# Altium schematic symbol library NanoPi-NEO.SchLib: 3 symbols
Pins are listed as number, name and electrical type; pins without a type are passive.

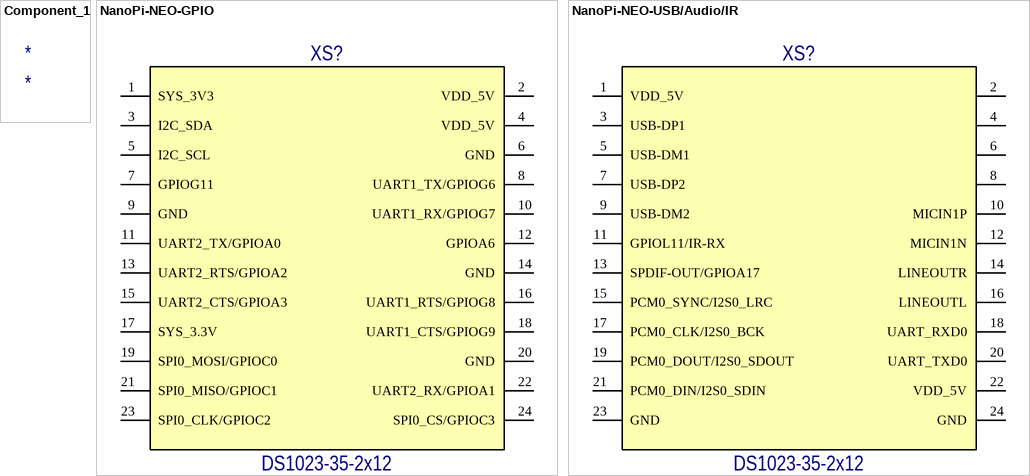
[diagram p0: symbols Component_1 to NanoPi-NEO-USB/Audio/IR]

## Component_1
designator *

## NanoPi-NEO-GPIO
designator XS?, comment DS1023-35-2x12
System: Connector
footprint DS1023-35-2x12
pins: 1 SYS_3V3, 2 VDD_5V, 3 I2C_SDA, 4 VDD_5V, 5 I2C_SCL, 6 GND, 7 GPIOG11, 8 UART1_TX/GPIOG6, 9 GND, 10 UART1_RX/GPIOG7, 11 UART2_TX/GPIOA0, 12 GPIOA6, 13 UART2_RTS/GPIOA2, 14 GND, 15 UART2_CTS/GPIOA3, 16 UART1_RTS/GPIOG8, 17 SYS_3.3V, 18 UART1_CTS/GPIOG9, 19 SPI0_MOSI/GPIOC0, 20 GND, 21 SPI0_MISO/GPIOC1, 22 UART2_RX/GPIOA1, 23 SPI0_CLK/GPIOC2, 24 SPI0_CS/GPIOC3

## NanoPi-NEO-USB/Audio/IR
designator XS?, comment DS1023-35-2x12
System: Connector
footprint DS1023-35-2x12
pins: 1 VDD_5V, 2, 3 USB-DP1, 4, 5 USB-DM1, 6, 7 USB-DP2, 8, 9 USB-DM2, 10 MICIN1P, 11 GPIOL11/IR-RX, 12 MICIN1N, 13 SPDIF-OUT/GPIOA17, 14 LINEOUTR, 15 PCM0_SYNC/I2S0_LRC, 16 LINEOUTL, 17 PCM0_CLK/I2S0_BCK, 18 UART_RXD0, 19 PCM0_DOUT/I2S0_SDOUT, 20 UART_TXD0, 21 PCM0_DIN/I2S0_SDIN, 22 VDD_5V, 23 GND, 24 GND